# Altium schematic symbol library ARCOM_Resistors.SchLib: 194 symbols (part 3 of 3)
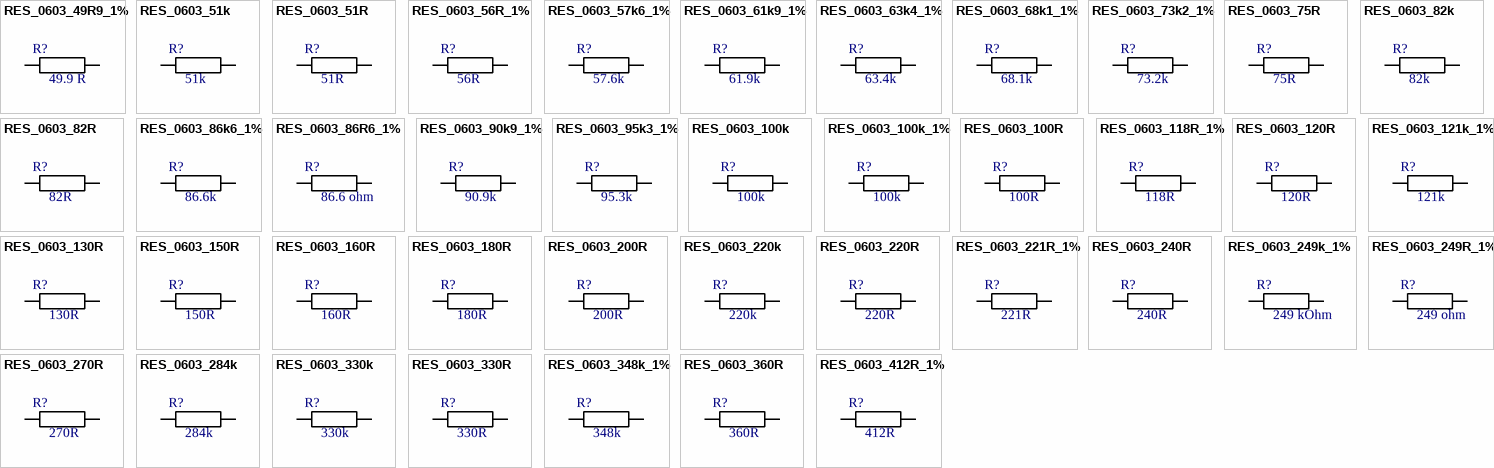
[diagram p6: symbols RES_0603_49R9_1% to RES_0603_412R_1%]

## RES_0603_220k
designator R?  value 220k  (hidden comment: RES_0603_220k)
Chip Resistor 0603  Size; Manufacturer: Cal-Chip Electronics Inc.; Manufacturer P/N: RM06J224CT; Part: 220 kOhm, 5%tol.; ComponentLink1Description: Manufacturer; ComponentLink1URL: http://www.calchip.com; ComponentLink2Description: Datasheet; ComponentLink2URL: https://www.opendatasheets.com/datasheet/rm06j823ct-cal-chip-electronics-25652085.html; Family: Resistor
footprint RESC0603(1608)_L (Chip Resistor, Body 1.6x0.8mm, IPC High Density)
footprint RESC0603(1608)_M (Chip Resistor, Body 1.6x0.8mm, IPC Low Density)
footprint RESC0603(1608)_N (Chip Resistor, Body 1.6x0.8mm, IPC Medium Density)
pins: 1, 2

## RES_0603_220R
designator R?  value 220R  (hidden comment: RES_0603_220R)
Chip Resistor 0603  Size; Manufacturer: Cal-Chip Electronics Inc.; Manufacturer P/N: RM06J221CT; Part: 220 ohm, 5%tol.; ComponentLink1Description: Manufacturer; ComponentLink1URL: http://www.calchip.com; ComponentLink2Description: Datasheet; ComponentLink2URL: https://www.opendatasheets.com/datasheet/rm06j823ct-cal-chip-electronics-25652085.html; Family: Resistor
footprint RESC0603(1608)_L (Chip Resistor, Body 1.6x0.8mm, IPC High Density)
footprint RESC0603(1608)_M (Chip Resistor, Body 1.6x0.8mm, IPC Low Density)
footprint RESC0603(1608)_N (Chip Resistor, Body 1.6x0.8mm, IPC Medium Density)
pins: 1, 2

## RES_0603_221R_1%
designator R?  value 221R  (hidden comment: RES_0603_221R_1%)
Chip Resistor 0603  Size; Manufacturer: Cal-Chip Electronics Inc.; Manufacturer P/N: RM06F2210CT-LF; Part: 221 ohm, 1%tol.; ComponentLink1Description: Manufacturer; ComponentLink1URL: http://www.calchip.com; ComponentLink2Description: Datasheet; ComponentLink2URL: https://www.opendatasheets.com/datasheet/rm06j823ct-cal-chip-electronics-25652085.html; Family: Resistor
footprint RESC0603(1608)_L (Chip Resistor, Body 1.6x0.8mm, IPC High Density)
footprint RESC0603(1608)_M (Chip Resistor, Body 1.6x0.8mm, IPC Low Density)
footprint RESC0603(1608)_N (Chip Resistor, Body 1.6x0.8mm, IPC Medium Density)
pins: 1, 2

## RES_0603_240R
designator R?  value 240R  (hidden comment: RES_0603_240R)
Chip Resistor 0603  Size; Manufacturer: Cal-Chip Electronics Inc.; Manufacturer P/N: RM06J241CT; Part: 240 ohm, 5%tol.; ComponentLink1Description: Manufacturer; ComponentLink1URL: http://www.calchip.com; ComponentLink2Description: Datasheet; ComponentLink2URL: https://www.opendatasheets.com/datasheet/rm06j823ct-cal-chip-electronics-25652085.html; Family: Resistor
footprint RESC0603(1608)_L (Chip Resistor, Body 1.6x0.8mm, IPC High Density)
footprint RESC0603(1608)_M (Chip Resistor, Body 1.6x0.8mm, IPC Low Density)
footprint RESC0603(1608)_N (Chip Resistor, Body 1.6x0.8mm, IPC Medium Density)
pins: 1, 2

## RES_0603_249k_1%
designator R?  value 249 kOhm  (hidden comment: RES_0603_249k_1%)
Chip Resistor 0603  Size; Manufacturer: Cal-Chip Electronics Inc.; Manufacturer P/N: RM06F2493CT-LF; Part: 249 kOhm, 1%tol.; ComponentLink1Description: Manufacturer; ComponentLink1URL: http://www.calchip.com; ComponentLink2Description: Datasheet; ComponentLink2URL: https://www.opendatasheets.com/datasheet/rm06j823ct-cal-chip-electronics-25652085.html; Family: Resistor
footprint RESC0603(1608)_L (Chip Resistor, Body 1.6x0.8mm, IPC High Density)
footprint RESC0603(1608)_M (Chip Resistor, Body 1.6x0.8mm, IPC Low Density)
footprint RESC0603(1608)_N (Chip Resistor, Body 1.6x0.8mm, IPC Medium Density)
pins: 1, 2

## RES_0603_249R_1%
designator R?  value 249 ohm  (hidden comment: RES_0603_249R_1%)
Chip Resistor 0603  Size; Manufacturer: Cal-Chip Electronics Inc.; Manufacturer P/N: RM06F2490CT-LF; Part: 249 ohm, 1%tol.; ComponentLink1Description: Manufacturer; ComponentLink1URL: http://www.calchip.com; ComponentLink2Description: Datasheet; ComponentLink2URL: https://www.opendatasheets.com/datasheet/rm06j823ct-cal-chip-electronics-25652085.html; Family: Resistor
footprint RESC0603(1608)_L (Chip Resistor, Body 1.6x0.8mm, IPC High Density)
footprint RESC0603(1608)_M (Chip Resistor, Body 1.6x0.8mm, IPC Low Density)
footprint RESC0603(1608)_N (Chip Resistor, Body 1.6x0.8mm, IPC Medium Density)
pins: 1, 2

## RES_0603_270R
designator R?  value 270R  (hidden comment: RES_0603_270R)
Chip Resistor 0603  Size; Manufacturer: Cal-Chip Electronics Inc.; Manufacturer P/N: RM06J271CT; Part: 270 ohm, 5%tol.; ComponentLink1Description: Manufacturer; ComponentLink1URL: http://www.calchip.com; ComponentLink2Description: Datasheet; ComponentLink2URL: https://www.opendatasheets.com/datasheet/rm06j823ct-cal-chip-electronics-25652085.html; Family: Resistor
footprint RESC0603(1608)_L (Chip Resistor, Body 1.6x0.8mm, IPC High Density)
footprint RESC0603(1608)_M (Chip Resistor, Body 1.6x0.8mm, IPC Low Density)
footprint RESC0603(1608)_N (Chip Resistor, Body 1.6x0.8mm, IPC Medium Density)
pins: 1, 2

## RES_0603_284k
designator R?  value 284k  (hidden comment: RES_0603_284k)
Chip Resistor 0603  Size; Manufacturer: Yageo; Manufacturer P/N: RT0603BRD07284KL; Part: 284 Kohm, 5%tol.; ComponentLink1Description: Manufacturer; ComponentLink2Description: Datasheet; Family: Resistor
footprint RESC0603(1608)_L (Chip Resistor, Body 1.6x0.8mm, IPC High Density)
footprint RESC0603(1608)_M (Chip Resistor, Body 1.6x0.8mm, IPC Low Density)
footprint RESC0603(1608)_N (Chip Resistor, Body 1.6x0.8mm, IPC Medium Density)
pins: 1, 2

## RES_0603_330k
designator R?  value 330k  (hidden comment: RES_0603_330k)
Chip Resistor 0603  Size; Manufacturer: Cal-Chip Electronics Inc.; Manufacturer P/N: RM06J334CT; Part: 330 Kohm, 5%tol.; ComponentLink1Description: Manufacturer; ComponentLink1URL: http://www.calchip.com; ComponentLink2Description: Datasheet; ComponentLink2URL: https://www.opendatasheets.com/datasheet/rm06j823ct-cal-chip-electronics-25652085.html; Family: Resistor
footprint RESC0603(1608)_L (Chip Resistor, Body 1.6x0.8mm, IPC High Density)
footprint RESC0603(1608)_M (Chip Resistor, Body 1.6x0.8mm, IPC Low Density)
footprint RESC0603(1608)_N (Chip Resistor, Body 1.6x0.8mm, IPC Medium Density)
pins: 1, 2

## RES_0603_330R
designator R?  value 330R  (hidden comment: RES_0603_330R)
Chip Resistor 0603  Size; Manufacturer: Cal-Chip Electronics Inc.; Manufacturer P/N: RM06J331CT; Part: 330 ohm, 5%tol.; ComponentLink1Description: Manufacturer; ComponentLink1URL: http://www.calchip.com; ComponentLink2Description: Datasheet; ComponentLink2URL: https://www.opendatasheets.com/datasheet/rm06j823ct-cal-chip-electronics-25652085.html; Family: Resistor
footprint RESC0603(1608)_L (Chip Resistor, Body 1.6x0.8mm, IPC High Density)
footprint RESC0603(1608)_M (Chip Resistor, Body 1.6x0.8mm, IPC Low Density)
footprint RESC0603(1608)_N (Chip Resistor, Body 1.6x0.8mm, IPC Medium Density)
pins: 1, 2

## RES_0603_348k_1%
designator R?  value 348k  (hidden comment: RES_0603_348k_1%)
Chip Resistor 0603  Size; Manufacturer: Cal-Chip Electronics Inc.; Manufacturer P/N: RM06F3483CT-LF; Part: 348 Kohm, 1%tol.; ComponentLink1Description: Manufacturer; ComponentLink1URL: http://www.calchip.com; ComponentLink2Description: Datasheet; ComponentLink2URL: https://www.opendatasheets.com/datasheet/rm06j823ct-cal-chip-electronics-25652085.html; Family: Resistor
footprint RESC0603(1608)_L (Chip Resistor, Body 1.6x0.8mm, IPC High Density)
footprint RESC0603(1608)_M (Chip Resistor, Body 1.6x0.8mm, IPC Low Density)
footprint RESC0603(1608)_N (Chip Resistor, Body 1.6x0.8mm, IPC Medium Density)
pins: 1, 2

## RES_0603_360R
designator R?  value 360R  (hidden comment: RES_0603_360R)
Chip Resistor 0603  Size; Manufacturer: Cal-Chip Electronics Inc.; Manufacturer P/N: RM06J361CT; Part: 360 ohm, 5%tol.; ComponentLink1Description: Manufacturer; ComponentLink1URL: http://www.calchip.com; ComponentLink2Description: Datasheet; ComponentLink2URL: https://www.opendatasheets.com/datasheet/rm06j823ct-cal-chip-electronics-25652085.html; Family: Resistor
footprint RESC0603(1608)_L (Chip Resistor, Body 1.6x0.8mm, IPC High Density)
footprint RESC0603(1608)_M (Chip Resistor, Body 1.6x0.8mm, IPC Low Density)
footprint RESC0603(1608)_N (Chip Resistor, Body 1.6x0.8mm, IPC Medium Density)
pins: 1, 2

## RES_0603_412R_1%
designator R?, comment value 412R  (hidden comment: RES_0603_412R)
Chip Resistor 0603  Size; Manufacturer: Cal-Chip Electronics Inc.; Manufacturer P/N: RM06F4120CT-LF; Part: 412 ohm, 1%tol.; ComponentLink1Description: Manufacturer; ComponentLink1URL: http://www.calchip.com; ComponentLink2Description: Datasheet; ComponentLink2URL: https://www.opendatasheets.com/datasheet/rm06j823ct-cal-chip-electronics-25652085.html; Family: Resistor
footprint RESC0603(1608)_L (Chip Resistor, Body 1.6x0.8mm, IPC High Density)
footprint RESC0603(1608)_M (Chip Resistor, Body 1.6x0.8mm, IPC Low Density)
footprint RESC0603(1608)_N (Chip Resistor, Body 1.6x0.8mm, IPC Medium Density)
pins: 1, 2

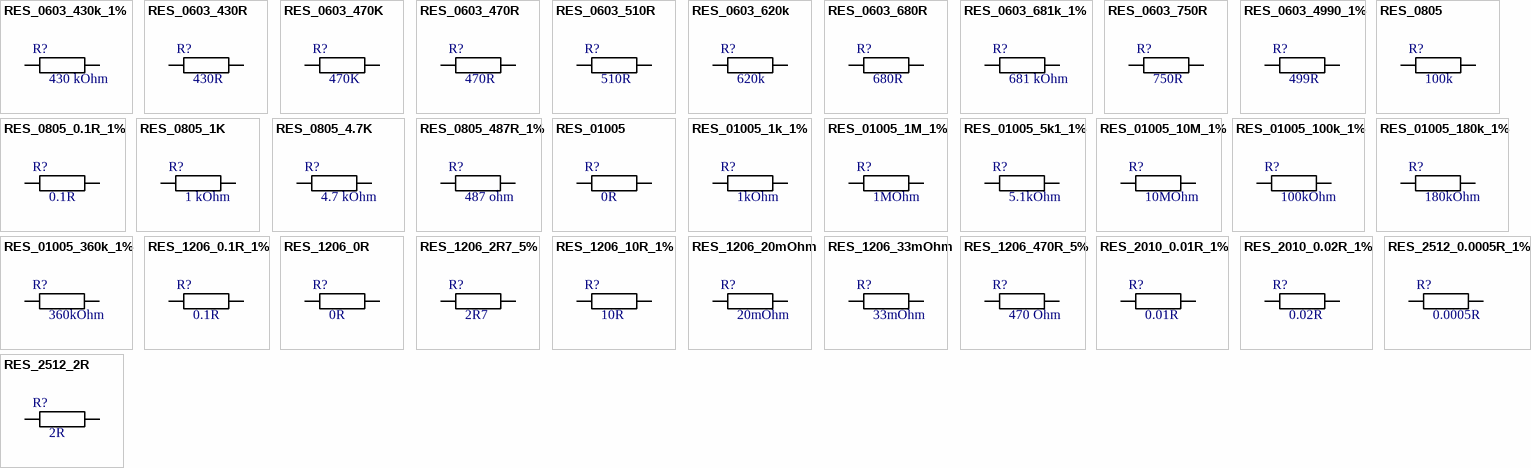
[diagram p4: symbols RES_0603_430k_1% to RES_2512_2R]

## RES_0603_430k_1%
designator R?  value 430 kOhm  (hidden comment: RES_0603_430k_1%)
Chip Resistor 0603  Size; Manufacturer: Cal-Chip Electronics Inc.; Manufacturer P/N: RM06F4303CT-LF; Part: 430 kOhm, 1%tol.; ComponentLink1Description: Manufacturer; ComponentLink1URL: http://www.calchip.com; ComponentLink2Description: Datasheet; ComponentLink2URL: https://www.opendatasheets.com/datasheet/rm06j823ct-cal-chip-electronics-25652085.html; Family: Resistor
footprint RESC0603(1608)_L (Chip Resistor, Body 1.6x0.8mm, IPC High Density)
footprint RESC0603(1608)_M (Chip Resistor, Body 1.6x0.8mm, IPC Low Density)
footprint RESC0603(1608)_N (Chip Resistor, Body 1.6x0.8mm, IPC Medium Density)
pins: 1, 2

## RES_0603_430R
designator R?  value 430R  (hidden comment: RES_0603_430R)
Chip Resistor 0603  Size; Manufacturer: Cal-Chip Electronics Inc.; Manufacturer P/N: RM06J431CT; Part: 430 ohm, 5%tol.; ComponentLink1Description: Manufacturer; ComponentLink1URL: http://www.calchip.com; ComponentLink2Description: Datasheet; ComponentLink2URL: https://www.opendatasheets.com/datasheet/rm06j823ct-cal-chip-electronics-25652085.html; Family: Resistor
footprint RESC0603(1608)_L (Chip Resistor, Body 1.6x0.8mm, IPC High Density)
footprint RESC0603(1608)_M (Chip Resistor, Body 1.6x0.8mm, IPC Low Density)
footprint RESC0603(1608)_N (Chip Resistor, Body 1.6x0.8mm, IPC Medium Density)
pins: 1, 2

## RES_0603_470K
designator R?  value 470K  (hidden comment: RES_0603_470K)
Chip Resistor 0603  Size; Manufacturer: Cal-Chip Electronics Inc.; Manufacturer P/N: RM06J474CT; Part: 470 kOhm, 5%tol.; ComponentLink1Description: Manufacturer; ComponentLink1URL: http://www.calchip.com; ComponentLink2Description: Datasheet; ComponentLink2URL: https://www.opendatasheets.com/datasheet/rm06j823ct-cal-chip-electronics-25652085.html; Family: Resistor
footprint RESC0603(1608)_L (Chip Resistor, Body 1.6x0.8mm, IPC High Density)
footprint RESC0603(1608)_M (Chip Resistor, Body 1.6x0.8mm, IPC Low Density)
footprint RESC0603(1608)_N (Chip Resistor, Body 1.6x0.8mm, IPC Medium Density)
pins: 1, 2

## RES_0603_470R
designator R?  value 470R  (hidden comment: RES_0603_470R)
Chip Resistor 0603  Size; Manufacturer: Cal-Chip Electronics Inc.; Manufacturer P/N: RM06J471CT; Part: 470 ohm, 5%tol.; ComponentLink1Description: Manufacturer; ComponentLink1URL: http://www.calchip.com; ComponentLink2Description: Datasheet; ComponentLink2URL: https://www.opendatasheets.com/datasheet/rm06j823ct-cal-chip-electronics-25652085.html; Family: Resistor
footprint RESC0603(1608)_L (Chip Resistor, Body 1.6x0.8mm, IPC High Density)
footprint RESC0603(1608)_M (Chip Resistor, Body 1.6x0.8mm, IPC Low Density)
footprint RESC0603(1608)_N (Chip Resistor, Body 1.6x0.8mm, IPC Medium Density)
pins: 1, 2

## RES_0603_510R
designator R?  value 510R  (hidden comment: RES_0603_510R)
Chip Resistor 0603  Size; Manufacturer: Cal-Chip Electronics Inc.; Manufacturer P/N: RM06J511CT; Part: 510 ohm, 5%tol.; ComponentLink1Description: Manufacturer; ComponentLink1URL: http://www.calchip.com; ComponentLink2Description: Datasheet; ComponentLink2URL: https://www.opendatasheets.com/datasheet/rm06j823ct-cal-chip-electronics-25652085.html; Family: Resistor
footprint RESC0603(1608)_L (Chip Resistor, Body 1.6x0.8mm, IPC High Density)
footprint RESC0603(1608)_M (Chip Resistor, Body 1.6x0.8mm, IPC Low Density)
footprint RESC0603(1608)_N (Chip Resistor, Body 1.6x0.8mm, IPC Medium Density)
pins: 1, 2

## RES_0603_620k
designator R?  value 620k  (hidden comment: RES_0603_620k)
Chip Resistor 0603  Size; Manufacturer: Cal-Chip Electronics Inc.; Manufacturer P/N: RM06J624CT; Part: 620 Kohm, 5%tol.; ComponentLink1Description: Manufacturer; ComponentLink1URL: http://www.calchip.com; ComponentLink2Description: Datasheet; ComponentLink2URL: https://www.opendatasheets.com/datasheet/rm06j823ct-cal-chip-electronics-25652085.html; Family: Resistor
footprint RESC0603(1608)_L (Chip Resistor, Body 1.6x0.8mm, IPC High Density)
footprint RESC0603(1608)_M (Chip Resistor, Body 1.6x0.8mm, IPC Low Density)
footprint RESC0603(1608)_N (Chip Resistor, Body 1.6x0.8mm, IPC Medium Density)
pins: 1, 2

## RES_0603_680R
designator R?  value 680R  (hidden comment: RES_0603_680R)
Chip Resistor 0603  Size; Manufacturer: Cal-Chip Electronics Inc.; Manufacturer P/N: RM06J681CT; Part: 680 ohm, 5%tol.; ComponentLink1Description: Manufacturer; ComponentLink1URL: http://www.calchip.com; ComponentLink2Description: Datasheet; ComponentLink2URL: https://www.opendatasheets.com/datasheet/rm06j823ct-cal-chip-electronics-25652085.html; Family: Resistor
footprint RESC0603(1608)_L (Chip Resistor, Body 1.6x0.8mm, IPC High Density)
footprint RESC0603(1608)_M (Chip Resistor, Body 1.6x0.8mm, IPC Low Density)
footprint RESC0603(1608)_N (Chip Resistor, Body 1.6x0.8mm, IPC Medium Density)
pins: 1, 2

## RES_0603_681k_1%
designator R?  value 681 kOhm  (hidden comment: RES_0603_681k_1%)
Chip Resistor 0603  Size; Manufacturer: Cal-Chip Electronics Inc.; Manufacturer P/N: RM06F6813CT-LF; Part: 681 kOhm, 1%tol.; ComponentLink1Description: Manufacturer; ComponentLink1URL: http://www.calchip.com; ComponentLink2Description: Datasheet; ComponentLink2URL: https://www.opendatasheets.com/datasheet/rm06j823ct-cal-chip-electronics-25652085.html; Family: Resistor
footprint RESC0603(1608)_L (Chip Resistor, Body 1.6x0.8mm, IPC High Density)
footprint RESC0603(1608)_M (Chip Resistor, Body 1.6x0.8mm, IPC Low Density)
footprint RESC0603(1608)_N (Chip Resistor, Body 1.6x0.8mm, IPC Medium Density)
pins: 1, 2

## RES_0603_750R
designator R?  value 750R  (hidden comment: RES_0603_750R)
Chip Resistor 0603  Size; Manufacturer: Cal-Chip Electronics Inc.; Manufacturer P/N: RM06J751CT; Part: 750 ohm, 5%tol.; ComponentLink1Description: Manufacturer; ComponentLink1URL: http://www.calchip.com; ComponentLink2Description: Datasheet; ComponentLink2URL: https://www.opendatasheets.com/datasheet/rm06j823ct-cal-chip-electronics-25652085.html; Family: Resistor
footprint RESC0603(1608)_L (Chip Resistor, Body 1.6x0.8mm, IPC High Density)
footprint RESC0603(1608)_M (Chip Resistor, Body 1.6x0.8mm, IPC Low Density)
footprint RESC0603(1608)_N (Chip Resistor, Body 1.6x0.8mm, IPC Medium Density)
pins: 1, 2

## RES_0603_4990_1%
designator R?  value 499R  (hidden comment: RES_0603_4990_1%)
Chip Resistor 0603  Size; Manufacturer: Cal-Chip Electronics Inc.; Manufacturer P/N: RM06F4990CT-LF; Part: 499 ohm, 1%tol.; ComponentLink1Description: Manufacturer; ComponentLink1URL: http://www.calchip.com; ComponentLink2Description: Datasheet; ComponentLink2URL: https://www.opendatasheets.com/datasheet/rm06j823ct-cal-chip-electronics-25652085.html; Family: Resistor
footprint RESC0603(1608)_L (Chip Resistor, Body 1.6x0.8mm, IPC High Density)
footprint RESC0603(1608)_M (Chip Resistor, Body 1.6x0.8mm, IPC Low Density)
footprint RESC0603(1608)_N (Chip Resistor, Body 1.6x0.8mm, IPC Medium Density)
pins: 1, 2

## RES_0805
designator R?  value 100k  (hidden comment: RES_0805)
Family: Resistor
pins: 1, 2

## RES_0805_0.1R_1%
designator R?  value 0.1R  (hidden comment: RES_0805_0.1R_1%)
Chip Resistor 0805  Size; Manufacturer: VISHAY; Manufacturer P/N: WSL0805R1000FEA; Part: 0.1 ohm, 1%tol.; ComponentLink1Description: Manufacturer; ComponentLink2Description: Datasheet; ComponentLink2URL: http://www.mouser.com/ds/2/427/wsl-101914.pdf; Family: Resistor
footprint RESC0805(2012)_L (Chip Resistor, Body 2.0x1.3mm, IPC High Density)
footprint RESC0805(2012)_M (Chip Resistor, Body 2.0x1.3mm, IPC Low Density)
footprint RESC0805(2012)_N (Chip Resistor, Body 2.0x1.3mm, IPC Medium Density)
pins: 1, 2

## RES_0805_1K
designator R?  value 1 kOhm  (hidden comment: RES_0805_1K)
Chip Resistor 0805  Size; Manufacturer: Cal-Chip Electronics Inc.; Manufacturer P/N: RM08J102CT; Part: 1 kOhm, 5%tol.; ComponentLink1Description: Manufacturer; ComponentLink1URL: http://www.calchip.com; ComponentLink2Description: Datasheet; ComponentLink2URL: https://www.opendatasheets.com/datasheet/rm06j823ct-cal-chip-electronics-25652085.html; Family: Resistor
footprint RESC0805(2012)_L (Chip Resistor, Body 2.0x1.3mm, IPC High Density)
footprint RESC0805(2012)_M (Chip Resistor, Body 2.0x1.3mm, IPC Low Density)
footprint RESC0805(2012)_N (Chip Resistor, Body 2.0x1.3mm, IPC Medium Density)
pins: 1, 2

## RES_0805_4.7K
designator R?  value 4.7 kOhm  (hidden comment: RES_0805_4.7K)
Chip Resistor 0805  Size; Manufacturer: Cal-Chip Electronics Inc.; Manufacturer P/N: RM08J472CT; Part: 4.7 kOhm, 5%tol.; ComponentLink1Description: Manufacturer; ComponentLink1URL: http://www.calchip.com; ComponentLink2Description: Datasheet; ComponentLink2URL: https://www.opendatasheets.com/datasheet/rm06j823ct-cal-chip-electronics-25652085.html; Family: Resistor
footprint RESC0805(2012)_L (Chip Resistor, Body 2.0x1.3mm, IPC High Density)
footprint RESC0805(2012)_M (Chip Resistor, Body 2.0x1.3mm, IPC Low Density)
footprint RESC0805(2012)_N (Chip Resistor, Body 2.0x1.3mm, IPC Medium Density)
pins: 1, 2

## RES_0805_487R_1%
designator R?  value 487 ohm  (hidden comment: RES_0805_487R_1%)
Chip Resistor 0805  Size; Manufacturer: Cal-Chip Electronics Inc.; Manufacturer P/N: RM08F487RCT-LF; Part: 487 ohm, 1%tol.; ComponentLink1Description: Manufacturer; ComponentLink1URL: http://www.calchip.com; ComponentLink2Description: Datasheet; ComponentLink2URL: https://www.opendatasheets.com/datasheet/rm06j823ct-cal-chip-electronics-25652085.html; Family: Resistor
footprint RESC0805(2012)_L (Chip Resistor, Body 2.0x1.3mm, IPC High Density)
footprint RESC0805(2012)_M (Chip Resistor, Body 2.0x1.3mm, IPC Low Density)
footprint RESC0805(2012)_N (Chip Resistor, Body 2.0x1.3mm, IPC Medium Density)
pins: 1, 2

## RES_01005
designator R?  value 0R  (hidden comment: RES_01005)
Family: Resistor
footprint C01005_N (Chip Capacitor, 2-Leads, Body 0,40x0,20mm, IPC Medium Density)
pins: 1, 2

## RES_01005_1k_1%
designator R?  value 1kOhm  (hidden comment: RES_01005_1k_1%)
Chip Resistor 01005 size; Manufacturer: Bourns; Manufacturer P/N: CR01005-FW-1001GLF; Part: 1 kOhm, 1%tol.; Family: Resistor
footprint C01005_new (Chip Capacitor, 2-Leads, Body 0,40x0,20mm, IPC High Density)
pins: 1, 2

## RES_01005_1M_1%
designator R?  value 1MOhm  (hidden comment: RES_01005_1M_1%)
Chip Resistor 01005 size; Manufacturer: Yageo; Manufacturer P/N: RC0100FR-071ML; Part: 1 MOhm, 1%tol.; Family: Resistor
footprint C01005_new (Chip Capacitor, 2-Leads, Body 0,40x0,20mm, IPC High Density)
pins: 1, 2

## RES_01005_5k1_1%
designator R?  value 5.1kOhm  (hidden comment: RES_01005_5k1_1%)
Chip Resistor 01005 size; Manufacturer: Yageo; Manufacturer P/N: RC0100FR-075K1L; Part: 5.1 kOhm, 1%tol.; Family: Resistor
footprint C01005_new (Chip Capacitor, 2-Leads, Body 0,40x0,20mm, IPC High Density)
pins: 1, 2

## RES_01005_10M_1%
designator R?  value 10MOhm  (hidden comment: RES_01005_10M_1%)
Chip Resistor 01005 size; Manufacturer: Yageo; Manufacturer P/N: RC0100FR-0710ML; Part: 10 MOhm, 1%tol.; Family: Resistor
footprint C01005_new (Chip Capacitor, 2-Leads, Body 0,40x0,20mm, IPC High Density)
pins: 1, 2

## RES_01005_100k_1%
designator R?  value 100kOhm  (hidden comment: RES_01005_100k_1%)
Chip Resistor 01005 size; Manufacturer: Bourns; Manufacturer P/N: CR01005-FW-1003GLF; Part: 100 kOhm, 1%tol.; Family: Resistor
footprint C01005_new (Chip Capacitor, 2-Leads, Body 0,40x0,20mm, IPC High Density)
pins: 1, 2

## RES_01005_180k_1%
designator R?  value 180kOhm  (hidden comment: RES_01005_180k_1%)
Chip Resistor 01005 size; Manufacturer: Yageo; Manufacturer P/N: RC0100FR-07180KL; Part: 180 kOhm, 1%tol.; Family: Resistor
footprint C01005_new (Chip Capacitor, 2-Leads, Body 0,40x0,20mm, IPC High Density)
pins: 1, 2

## RES_01005_360k_1%
designator R?  value 360kOhm  (hidden comment: RES_01005_360k_1%)
Chip Resistor 01005 size; Manufacturer: Yageo; Manufacturer P/N: RC0100FR-07360KL; Part: 360 kOhm, 1%tol.; Family: Resistor
footprint C01005_new (Chip Capacitor, 2-Leads, Body 0,40x0,20mm, IPC High Density)
pins: 1, 2

## RES_1206_0.1R_1%
designator R?  value 0.1R  (hidden comment: RES_1206_0.1R_1%)
Chip Resistor 1206 Size; Manufacturer: VISHAY; Manufacturer P/N: WSL1206R1000FEA; Part: 0.1 ohm, 1%tol.; ComponentLink1Description: Manufacturer; ComponentLink2Description: Datasheet; ComponentLink2URL: http://www.mouser.com/ds/2/427/wsl-101914.pdf; Family: Resistor
footprint RESC1206(3216)_L (Chip Resistor, Body 3.2x1.6mm, IPC High Density)
footprint RESC1206(3216)_M (Chip Resistor, Body 3.2x1.6mm, IPC Low Density)
footprint RESC1206(3216)_N (Chip Resistor, Body 3.2x1.6mm, IPC Medium Density)
pins: 1, 2

## RES_1206_0R
designator R?  value 0R  (hidden comment: RES_1206_0R)
Chip Resistor 1206  Size; Manufacturer: VISHAY; Manufacturer P/N: CRCW12060000Z0E; Part: 0 Ohm, 5%; ComponentLink1Description: Manufacturer; ComponentLink2Description: Datasheet; Family: Resistor
footprint RESC1206(3216)_L (Chip Resistor, Body 3.2x1.6mm, IPC High Density)
footprint RESC1206(3216)_M (Chip Resistor, Body 3.2x1.6mm, IPC Low Density)
footprint RESC1206(3216)_N (Chip Resistor, Body 3.2x1.6mm, IPC Medium Density)
pins: 1, 2

## RES_1206_2R7_5%
designator R?  value 2R7  (hidden comment: RES_1206_2R7_5%)
Chip Resistor 1206  Size; Manufacturer: VISHAY; Manufacturer P/N: CRCW1206-2R7J; Part: 2.7 Ohm, 1%; ComponentLink1Description: Manufacturer; ComponentLink2Description: Datasheet; Family: Resistor
footprint RESC1206(3216)_L (Chip Resistor, Body 3.2x1.6mm, IPC High Density)
footprint RESC1206(3216)_M (Chip Resistor, Body 3.2x1.6mm, IPC Low Density)
footprint RESC1206(3216)_N (Chip Resistor, Body 3.2x1.6mm, IPC Medium Density)
pins: 1, 2

## RES_1206_10R_1%
designator R?  value 10R  (hidden comment: RES_1206_10R_1%)
Chip Resistor 1206  Size; Manufacturer: VISHAY; Manufacturer P/N: CRCW1206-10R0F; Part: 10 Ohm, 1%; ComponentLink1Description: Manufacturer; ComponentLink2Description: Datasheet; Family: Resistor
footprint RESC1206(3216)_L (Chip Resistor, Body 3.2x1.6mm, IPC High Density)
footprint RESC1206(3216)_M (Chip Resistor, Body 3.2x1.6mm, IPC Low Density)
footprint RESC1206(3216)_N (Chip Resistor, Body 3.2x1.6mm, IPC Medium Density)
pins: 1, 2

## RES_1206_20mOhm
designator R?  value 20mOhm  (hidden comment: RES_1206_20mOhm)
Chip Resistor 1206  Size; Manufacturer: American Accurate Components; Manufacturer P/N: RM12JR02CT; Part: 20mOhm, 5%; ComponentLink1Description: Manufacturer; ComponentLink1URL: http://www.aacix.com; ComponentLink2Description: Datasheet; Family: Resistor
footprint RESC1206(3216)_L (Chip Resistor, Body 3.2x1.6mm, IPC High Density)
footprint RESC1206(3216)_M (Chip Resistor, Body 3.2x1.6mm, IPC Low Density)
footprint RESC1206(3216)_N (Chip Resistor, Body 3.2x1.6mm, IPC Medium Density)
pins: 1, 2

## RES_1206_33mOhm
designator R?  value 33mOhm  (hidden comment: RES_1206_33mOhm)
Chip Resistor 1206  Size; Manufacturer: Cal-Chip Electronics Inc.; Manufacturer P/N: RM12JR33CT; Part: 33mOhm, 5%; ComponentLink1Description: Manufacturer; ComponentLink1URL: http://www.aacix.com; ComponentLink2Description: Datasheet; Family: Resistor
footprint RESC1206(3216)_L (Chip Resistor, Body 3.2x1.6mm, IPC High Density)
footprint RESC1206(3216)_M (Chip Resistor, Body 3.2x1.6mm, IPC Low Density)
footprint RESC1206(3216)_N (Chip Resistor, Body 3.2x1.6mm, IPC Medium Density)
pins: 1, 2

## RES_1206_470R_5%
designator R?  value 470 Ohm  (hidden comment: RES_1206_470R_5%)
Chip Resistor 1206  Size; Manufacturer: VISHAY; Manufacturer P/N: CRCW1206-471J; Part: 470 Ohm, 5%; ComponentLink1Description: Manufacturer; ComponentLink2Description: Datasheet; Family: Resistor
footprint RESC1206(3216)_L (Chip Resistor, Body 3.2x1.6mm, IPC High Density)
footprint RESC1206(3216)_M (Chip Resistor, Body 3.2x1.6mm, IPC Low Density)
footprint RESC1206(3216)_N (Chip Resistor, Body 3.2x1.6mm, IPC Medium Density)
pins: 1, 2

## RES_2010_0.01R_1%
designator R?  value 0.01R  (hidden comment: RES_2010_0.01R_1%)
Chip Resistor 2010  Size; Manufacturer: VISHAY; Manufacturer P/N: WSL2010R0100F; Part: 0.01 ohm, 1%tol.; ComponentLink1Description: Manufacturer; ComponentLink2Description: Datasheet; Family: Resistor
footprint RESC2010(5025)_L (Chip Resistor, Body 5.0x2.5mm, IPC High Density)
footprint RESC2010(5025)_M (Chip Resistor, Body 5.0x2.5mm, IPC Low Density)
footprint RESC2010(5025)_N (Chip Resistor, Body 5.0x2.5mm, IPC Medium Density)
pins: 1, 2

## RES_2010_0.02R_1%
designator R?  value 0.02R  (hidden comment: RES_2010_0.02R_1%)
Chip Resistor 2010  Size; Manufacturer: Yageo; Manufacturer P/N: PE2010FKE070R02L; Part: 0.02 ohm, 1%tol.; ComponentLink1Description: Manufacturer; ComponentLink2Description: Datasheet; Family: Resistor
footprint RESC2010(5025)_L (Chip Resistor, Body 5.0x2.5mm, IPC High Density)
footprint RESC2010(5025)_M (Chip Resistor, Body 5.0x2.5mm, IPC Low Density)
footprint RESC2010(5025)_N (Chip Resistor, Body 5.0x2.5mm, IPC Medium Density)
pins: 1, 2

## RES_2512_0.0005R_1%
designator R?  value 0.0005R  (hidden comment: RES_2512_0.0005R_1%)
Chip Resistor 2512  Size; Manufacturer: Vishay; Manufacturer P/N: WSLF2512L5000FEA; Part: 0.0005 Ohm, 1%tol.; ComponentLink1Description: Manufacturer; ComponentLink1URL: https://www.vishay.com/; ComponentLink2Description: Datasheet; ComponentLink2URL: https://www.mouser.com/datasheet/2/427/wslf-1762044.pdf; Family: Resistor
footprint RESC2512(6432)_L (Chip Resistor, Body 6.4x3.2mm, IPC High Density)
footprint RESC2512(6432)_M (Chip Resistor, Body 6.4x3.2mm, IPC Low Density)
footprint RESC2512(6432)_N (Chip Resistor, Body 6.4x3.2mm, IPC Medium Density)
pins: 1, 2

## RES_2512_2R
designator R?  value 2R  (hidden comment: RES_2512_2R)
Chip Resistor 2512  Size; Manufacturer: Cal-Chip Electronics Inc.; Manufacturer P/N: RM25J2R0CT; Part: 2 Ohm, 5%tol.; ComponentLink1Description: Manufacturer; ComponentLink1URL: http://www.calchip.com; ComponentLink2Description: Datasheet; ComponentLink2URL: https://www.opendatasheets.com/datasheet/rm06j823ct-cal-chip-electronics-25652085.html; Family: Resistor
footprint RESC2512(6432)_L (Chip Resistor, Body 6.4x3.2mm, IPC High Density)
footprint RESC2512(6432)_M (Chip Resistor, Body 6.4x3.2mm, IPC Low Density)
footprint RESC2512(6432)_N (Chip Resistor, Body 6.4x3.2mm, IPC Medium Density)
pins: 1, 2